# Altium footprint library Crystal.PcbLib: 185 footprints (part 1 of 12)
Each footprint in its own frame and in the unit in brackets; x right, y up, seen from the top. Pads: shape width x height; smd on the part's side, far side on the other; paste and mask are expansions set on the pad; w line width, h text height; cw(c..) or ccw(c..) is an arc to the next point about the centre after c.
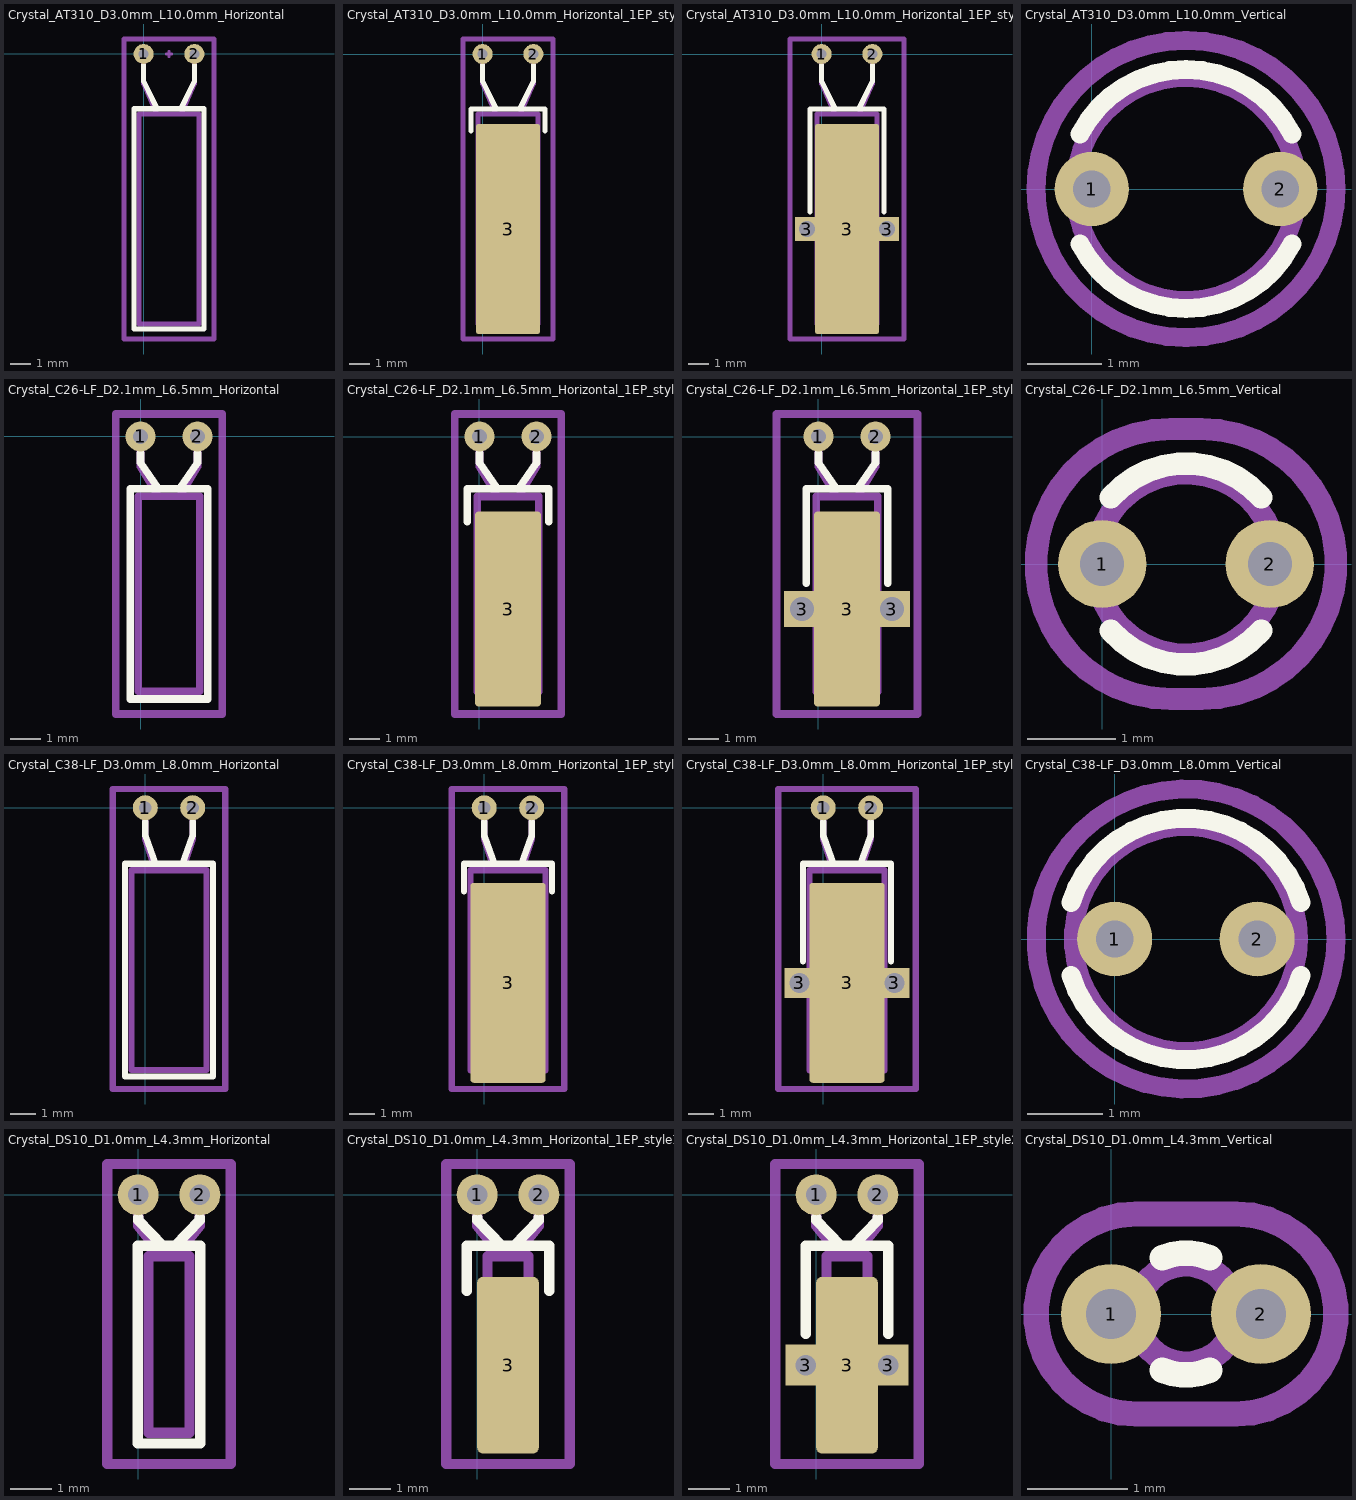
[diagram p0: the footprints below, top view; thin cyan lines are the x and y axes]

## Crystal_AT310_D3.0mm_L10.0mm_Horizontal [mm]
pads (2):
  round 1 hole 0.5: 1(0,0) 2(2.54,0)
F.SilkS:
  lines w0.254: 0,-0.56 0,-1.37 0.67,-2.74 ; 1.87,-2.74 2.54,-1.37 2.54,-0.56 ; -0.49,-13.76 -0.49,-2.74 3.03,-2.74 3.03,-13.76 -0.49,-13.76
Top Component Center:
  lines w0.127: 1.143,0 1.397,0 ; 1.27,-0.127 1.27,0.127
Top Assembly:
  lines w0.254: 0,0 0,-1.5 0.67,-3 ; 1.87,-3 2.54,-1.5 2.54,0 ; -0.23,-13.5 -0.23,-3 2.77,-3 2.77,-13.5 -0.23,-13.5
  text "'.Designator'" at 2.11,-12.303 h1
Top Courtyard:
  lines w0.254: -0.98,-14.26 -0.98,0.75 3.52,0.75 3.52,-14.26 -0.98,-14.26
Top Designator:
  text ".Designator" at -6.348,-7.263 h1.52
3D body "Crystal_AT310_D3.0mm_L10.0mm_Horizontal.step": height 3.1, standoff -3, extent -0.396,-12.35 2.682,0

## Crystal_AT310_D3.0mm_L10.0mm_Horizontal_1EP_style1 [mm]
pads (3):
  round 1 hole 0.5: 1(0,0) 2(2.54,0)
  rrect8% 3.2x10.5 smd: 3(1.27,-8.75)
F.SilkS:
  lines w0.254: -0.59,-3.84 -0.59,-2.74 3.13,-2.74 3.13,-3.84 ; 0,-0.56 0,-1.37 0.67,-2.74 ; 1.87,-2.74 2.54,-1.37 2.54,-0.56
Top Assembly:
  lines w0.254: 0,0 0,-1.5 0.67,-3 ; 1.87,-3 2.54,-1.5 2.54,0 ; -0.23,-13.5 -0.23,-3 2.77,-3 2.77,-13.5 -0.23,-13.5
  text "'.Designator'" at 2.11,-12.297 h1
Top Courtyard:
  lines w0.254: -0.98,-14.25 -0.98,0.75 3.52,0.75 3.52,-14.25 -0.98,-14.25
Top Designator:
  text ".Designator" at -6.348,-7.258 h1.52

## Crystal_AT310_D3.0mm_L10.0mm_Horizontal_1EP_style2 [mm]
pads (5):
  round 1 hole 0.5: 1(0,0) 2(2.54,0)
  rect 1.2x1.2 hole 0.8: 3(-0.73,-8.75) 3(3.27,-8.75)
  rrect8% 3.2x10.5 smd: 3(1.27,-8.75)
F.SilkS:
  lines w0.254: -0.59,-7.89 -0.59,-2.74 3.13,-2.74 3.13,-7.89 ; 0,-0.56 0,-1.37 0.67,-2.74 ; 1.87,-2.74 2.54,-1.37 2.54,-0.56
Top Assembly:
  lines w0.254: -0.73,-8.75 3.27,-8.75 ; 0,0 0,-1.5 0.67,-3 ; 1.87,-3 2.54,-1.5 2.54,0 ; -0.23,-13.5 2.77,-13.5 2.77,-3 -0.23,-3 -0.23,-13.5
  text "'.Designator'" at 2.11,-12.297 h1
Top Courtyard:
  lines w0.254: -1.58,-14.25 4.12,-14.25 4.12,0.75 -1.58,0.75 -1.58,-14.25
Top Designator:
  text ".Designator" at -6.348,-7.258 h1.52

## Crystal_AT310_D3.0mm_L10.0mm_Vertical [mm]
pads (2):
  round 1 hole 0.5: 1(0,0) 2(2.54,0)
F.SilkS:
  lines w0.254: -0.158,-0.743 ccw(c1.27,-0.001) 2.698,-0.743 ; -0.158,0.743 cw(c1.27,0.001) 2.698,0.743
Top Assembly:
  circle w0.254: c1.27,0 r1.5
  text "'.Designator'" at -1.763,-0.628 h0.75
Top Courtyard:
  lines w0.254: 1.25,-2 cw(c1.25,0) 1.25,2 1.29,2 cw(c1.29,0) 1.29,-2 1.25,-2
Top Designator:
  text ".Designator" at -6.458,-0.508 h1.52

## Crystal_C26-LF_D2.1mm_L6.5mm_Horizontal [mm]
pads (2):
  round 1 hole 0.5: 1(0,0) 2(1.9,0)
F.SilkS:
  lines w0.254: 0,-0.56 0,-0.87 0.6,-1.74 ; 1.3,-1.74 1.9,-0.87 1.9,-0.56 ; -0.34,-8.76 -0.34,-1.74 2.24,-1.74 2.24,-8.76 -0.34,-8.76
Top Assembly:
  lines w0.254: 0,0 0,-1 0.6,-2 ; 1.3,-2 1.9,-1 1.9,0 ; -0.08,-8.5 -0.08,-2 1.98,-2 1.98,-8.5 -0.08,-8.5
  text "'.Designator'" at 1.79,-9.303 h1
Top Courtyard:
  lines w0.254: -0.83,-9.26 -0.83,0.75 2.73,0.75 2.73,-9.26 -0.83,-9.26
Top Designator:
  text ".Designator" at -6.668,-4.796 h1.52

## Crystal_C26-LF_D2.1mm_L6.5mm_Horizontal_1EP_style1 [mm]
pads (3):
  round 1 hole 0.5: 1(0,0) 2(1.9,0)
  rrect11% 2.2x6.5 smd: 3(0.95,-5.75)
F.SilkS:
  lines w0.254: -0.41,-2.84 -0.41,-1.74 2.31,-1.74 2.31,-2.84 ; 0,-0.56 0,-0.87 0.6,-1.74 ; 1.3,-1.74 1.9,-0.87 1.9,-0.56
Top Assembly:
  lines w0.254: 0,0 0,-1 0.6,-2 ; 1.3,-2 1.9,-1 1.9,0 ; -0.08,-8.5 -0.08,-2 1.98,-2 1.98,-8.5 -0.08,-8.5
  text "'.Designator'" at 1.79,-9.297 h1
Top Courtyard:
  lines w0.254: -0.83,-9.25 -0.83,0.75 2.73,0.75 2.73,-9.25 -0.83,-9.25
Top Designator:
  text ".Designator" at -6.668,-4.793 h1.52

## Crystal_C26-LF_D2.1mm_L6.5mm_Horizontal_1EP_style2 [mm]
pads (5):
  round 1 hole 0.5: 1(0,0) 2(1.9,0)
  rect 1.2x1.2 hole 0.8: 3(-0.55,-5.75) 3(2.45,-5.75)
  rrect11% 2.2x6.5 smd: 3(0.95,-5.75)
F.SilkS:
  lines w0.254: -0.41,-4.89 -0.41,-1.74 2.31,-1.74 2.31,-4.89 ; 0,-0.56 0,-0.87 0.6,-1.74 ; 1.3,-1.74 1.9,-0.87 1.9,-0.56
Top Assembly:
  lines w0.254: -0.55,-5.75 2.45,-5.75 ; 0,0 0,-1 0.6,-2 ; 1.3,-2 1.9,-1 1.9,0 ; -0.08,-8.5 1.98,-8.5 1.98,-2 -0.08,-2 -0.08,-8.5
  text "'.Designator'" at 1.79,-9.297 h1
Top Courtyard:
  lines w0.254: -1.4,-9.25 3.3,-9.25 3.3,0.75 -1.4,0.75 -1.4,-9.25
Top Designator:
  text ".Designator" at -6.668,-4.793 h1.52

## Crystal_C26-LF_D2.1mm_L6.5mm_Vertical [mm]
pads (2):
  round 1 hole 0.5: 1(0,0) 2(1.9,0)
F.SilkS:
  lines w0.254: 0.095,-0.754 ccw(c0.95,0) 1.805,-0.754 ; 0.095,0.754 cw(c0.95,0) 1.805,0.754
Top Assembly:
  circle w0.254: c0.95,0 r1.03
  text "'.Designator'" at -1.156,-0.439 h0.52
Top Courtyard:
  lines w0.254: 0.78,-1.53 cw(c0.78,0) 0.78,1.53 1.12,1.53 cw(c1.12,0) 1.12,-1.53 0.78,-1.53
Top Designator:
  text ".Designator" at -6.748,-0.508 h1.52

## Crystal_C38-LF_D3.0mm_L8.0mm_Horizontal [mm]
pads (2):
  round 1 hole 0.5: 1(0,0) 2(1.9,0)
F.SilkS:
  lines w0.254: 0,-0.56 0,-1.12 0.405,-2.24 ; 1.495,-2.24 1.9,-1.12 1.9,-0.56 ; -0.81,-10.76 2.71,-10.76 2.71,-2.24 -0.81,-2.24 -0.81,-10.76
Top Assembly:
  lines w0.254: 0,0 0,-1.25 0.405,-2.5 ; 1.495,-2.5 1.9,-1.25 1.9,0 ; -0.55,-10.5 2.45,-10.5 2.45,-2.5 -0.55,-2.5 -0.55,-10.5
  text "'.Designator'" at 1.79,-10.503 h1
Top Courtyard:
  lines w0.254: -1.3,-11.26 3.2,-11.26 3.2,0.75 -1.3,0.75 -1.3,-11.26
Top Designator:
  text ".Designator" at -6.668,-5.763 h1.52

## Crystal_C38-LF_D3.0mm_L8.0mm_Horizontal_1EP_style1 [mm]
pads (3):
  round 1 hole 0.5: 1(0,0) 2(1.9,0)
  rrect8% 3x8 smd: 3(0.95,-7)
F.SilkS:
  lines w0.254: -0.81,-3.34 -0.81,-2.24 2.71,-2.24 2.71,-3.34 ; 0,-0.56 0,-1.12 0.405,-2.24 ; 1.495,-2.24 1.9,-1.12 1.9,-0.56
Top Assembly:
  lines w0.254: 0,0 0,-1.25 0.405,-2.5 ; 1.495,-2.5 1.9,-1.25 1.9,0 ; -0.55,-10.5 2.45,-10.5 2.45,-2.5 -0.55,-2.5 -0.55,-10.5
  text "'.Designator'" at 1.79,-10.497 h1
Top Courtyard:
  lines w0.254: -1.3,-11.25 3.2,-11.25 3.2,0.75 -1.3,0.75 -1.3,-11.25
Top Designator:
  text ".Designator" at -6.668,-5.758 h1.52

## Crystal_C38-LF_D3.0mm_L8.0mm_Horizontal_1EP_style2 [mm]
pads (5):
  round 1 hole 0.5: 1(0,0) 2(1.9,0)
  rect 1.2x1.2 hole 0.8: 3(-0.95,-7) 3(2.85,-7)
  rrect8% 3x8 smd: 3(0.95,-7)
F.SilkS:
  lines w0.254: -0.81,-6.14 -0.81,-2.24 2.71,-2.24 2.71,-6.14 ; 0,-0.56 0,-1.12 0.405,-2.24 ; 1.495,-2.24 1.9,-1.12 1.9,-0.56
Top Assembly:
  lines w0.254: -0.95,-7 2.85,-7 ; 0,0 0,-1.25 0.405,-2.5 ; 1.495,-2.5 1.9,-1.25 1.9,0 ; -0.55,-10.5 2.45,-10.5 2.45,-2.5 -0.55,-2.5 -0.55,-10.5
  text "'.Designator'" at 1.79,-10.497 h1
Top Courtyard:
  lines w0.254: -1.8,-11.25 3.7,-11.25 3.7,0.75 -1.8,0.75 -1.8,-11.25
Top Designator:
  text ".Designator" at -6.668,-5.758 h1.52

## Crystal_C38-LF_D3.0mm_L8.0mm_Vertical [mm]
pads (2):
  round 1 hole 0.5: 1(0,0) 2(1.9,0)
F.SilkS:
  lines w0.254: -0.585,-0.485 ccw(c0.95,0) 2.485,-0.485 ; -0.585,0.485 cw(c0.95,0) 2.485,0.485
Top Assembly:
  circle w0.254: c0.95,0 r1.5
  text "'.Designator'" at -2.083,-0.628 h0.75
Top Courtyard:
  circle w0.254: c0.95,0 r2
Top Designator:
  text ".Designator" at -6.778,-0.508 h1.52

## Crystal_DS10_D1.0mm_L4.3mm_Horizontal [mm]
pads (2):
  round 1 hole 0.5: 1(0,0) 2(1.5,0)
F.SilkS:
  lines w0.254: 0,-0.56 0,-0.62 0.6,-1.24 ; 0.9,-1.24 1.5,-0.62 1.5,-0.56 ; -0.01,-6.06 1.51,-6.06 1.51,-1.24 -0.01,-1.24 -0.01,-6.06
Top Assembly:
  lines w0.254: 0,0 0,-0.75 0.6,-1.5 ; 0.9,-1.5 1.5,-0.75 1.5,0 ; 0.25,-5.8 1.25,-5.8 1.25,-1.5 0.25,-1.5 0.25,-5.8
  text "'.Designator'" at 1.59,-7.683 h1
Top Courtyard:
  lines w0.254: -0.75,-6.56 2.25,-6.56 2.25,0.75 -0.75,0.75 -0.75,-6.56
Top Designator:
  text ".Designator" at -6.868,-3.986 h1.52

## Crystal_DS10_D1.0mm_L4.3mm_Horizontal_1EP_style1 [mm]
pads (3):
  round 1 hole 0.5: 1(0,0) 2(1.5,0)
  rrect17% 1.5x4.3 smd: 3(0.75,-4.15)
F.SilkS:
  lines w0.254: -0.26,-2.34 -0.26,-1.24 1.76,-1.24 1.76,-2.34 ; 0,-0.56 0,-0.62 0.6,-1.24 ; 0.9,-1.24 1.5,-0.62 1.5,-0.56
Top Assembly:
  lines w0.254: 0,0 0,-0.75 0.6,-1.5 ; 0.9,-1.5 1.5,-0.75 1.5,0 ; 0.25,-5.8 1.25,-5.8 1.25,-1.5 0.25,-1.5 0.25,-5.8
  text "'.Designator'" at 1.59,-7.677 h1
Top Courtyard:
  lines w0.254: -0.75,-6.56 2.25,-6.56 2.25,0.75 -0.75,0.75 -0.75,-6.56
Top Designator:
  text ".Designator" at -6.868,-3.983 h1.52

## Crystal_DS10_D1.0mm_L4.3mm_Horizontal_1EP_style2 [mm]
pads (5):
  round 1 hole 0.5: 1(0,0) 2(1.5,0)
  rect 1x1 hole 0.5: 3(-0.25,-4.15) 3(1.75,-4.15)
  rrect17% 1.5x4.3 smd: 3(0.75,-4.15)
F.SilkS:
  lines w0.254: -0.26,-3.39 -0.26,-1.24 1.76,-1.24 1.76,-3.39 ; 0,-0.56 0,-0.62 0.6,-1.24 ; 0.9,-1.24 1.5,-0.62 1.5,-0.56
Top Assembly:
  lines w0.254: -0.25,-4.15 1.75,-4.15 ; 0,0 0,-0.75 0.6,-1.5 ; 0.9,-1.5 1.5,-0.75 1.5,0 ; 0.25,-5.8 1.25,-5.8 1.25,-1.5 0.25,-1.5 0.25,-5.8
  text "'.Designator'" at 1.59,-7.677 h1
Top Courtyard:
  lines w0.254: -1,-6.56 2.5,-6.56 2.5,0.75 -1,0.75 -1,-6.56
Top Designator:
  text ".Designator" at -6.868,-3.983 h1.52

## Crystal_DS10_D1.0mm_L4.3mm_Vertical [mm]
pads (2):
  round 1 hole 0.5: 1(0,0) 2(1.5,0)
F.SilkS:
  lines w0.254: 0.512,-0.562 ccw(c0.75,0.004) 0.988,-0.562 ; 0.512,0.562 cw(c0.75,-0.004) 0.988,0.562
Top Assembly:
  circle w0.254: c0.75,0 r0.5
  text "'.Designator'" at -0.264,-0.213 h0.25
Top Courtyard:
  lines w0.254: 0.25,-1 cw(c0.25,0) 0.25,1 1.25,1 cw(c1.25,0) 1.25,-1 0.25,-1
Top Designator:
  text ".Designator" at -6.868,-0.508 h1.52